# Altium footprint library Load Drives.PcbLib: 5 footprints
Each footprint in its own frame and in the unit in brackets; x right, y up, seen from the top. Pads: shape width x height; smd on the part's side, far side on the other; paste and mask are expansions set on the pad; w line width, h text height; cw(c..) or ccw(c..) is an arc to the next point about the centre after c.
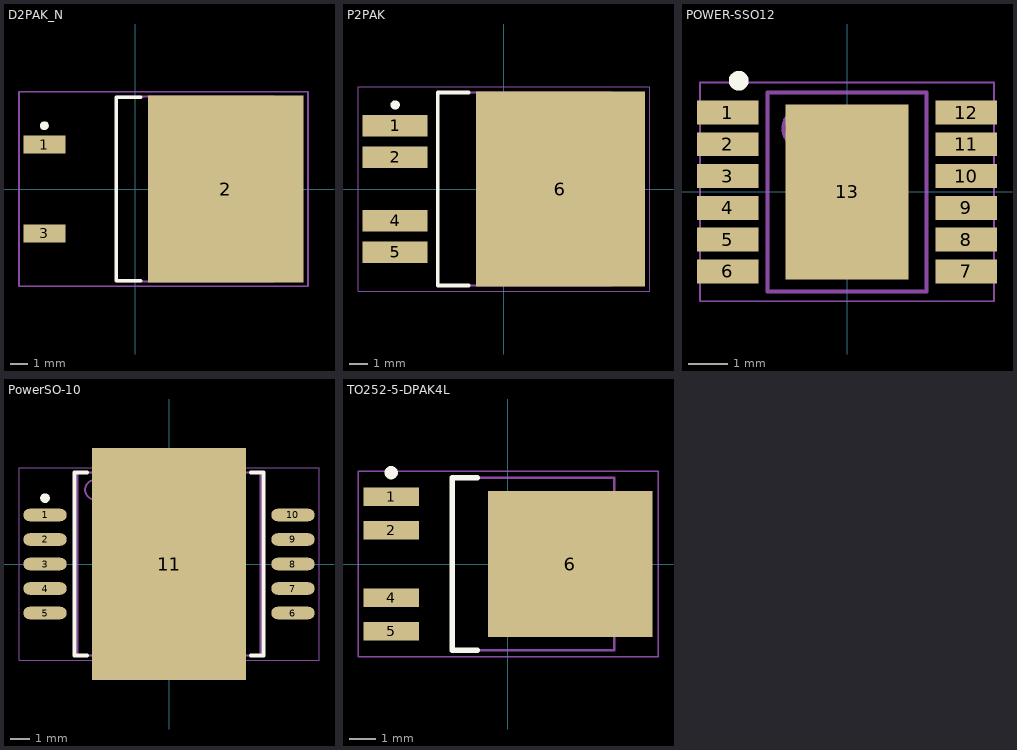
[diagram p0: the footprints below, top view; thin cyan lines are the x and y axes]

## D2PAK_N [mm] "D2-PAK, 4-Leads, Body 8.8x10.4mm, Pitch 2.54mm, Lead Span 15.1mm, IPC Medium Density"
height 4.69
pads (3):
  rect 2.4x1.05 smd: 1(-5.175,2.54) 3(-5.175,-2.54)
  rect 8.9x10.65 smd: 2(5.175,0)
Top Overlay:
  circle w0.25: c-5.175,3.615 r0.125
  lines w0.2: 0.325,-5.25 -1.075,-5.25 -1.075,5.25 0.325,5.25
Mechanical 13:
  lines w0.1: -1.075,-5.275 -1.075,5.275 7.925,5.275 7.925,-5.275 -1.075,-5.275
Mechanical 15:
  lines w0.1: 1.125,0 2.125,0 ; 1.625,-0.5 1.625,0.5 ; -6.625,-5.55 -6.625,5.55 9.875,5.55 9.875,-5.55 -6.625,-5.55
3D body "User Library-DPAK.step": height 4.98, standoff -0.04, extent -6.14,-5.08 9.124,5.08

## P2PAK [mm]
height 4.8
pads (5):
  rect 3.5x1.15 smd: 1(-5.85,3.4) 2(-5.85,1.7) 4(-5.85,-1.7) 5(-5.85,-3.4)
  rect 9.1x10.5 smd: 6(3.05,0)
Top Overlay:
  circle w0.25: c-5.85,4.525 r0.125
  lines w0.2: -1.9,-5.2 -3.55,-5.2 -3.55,5.2 -1.9,5.2
Mechanical 13:
  lines w0.1: -3.55,-5.2 5.8,-5.2 5.8,5.2 -3.55,5.2 -3.55,-5.2
Mechanical 15:
  lines w0.05: -7.85,-5.5 7.85,-5.5 7.85,5.5 -7.85,5.5 -7.85,-5.5
  lines w0.1: -0.5,0 0.5,0 ; 0,-0.5 0,0.5
3D body "P2PAK.step": height 4.9, standoff 0, extent -6.525,-5.2 7.575,5.2

## POWER-SSO12 [mm]
height 1.7
pads (13):
  rect 1.55x0.6 smd: 1(-3,2) 2(-3,1.2) 3(-3,0.4) 4(-3,-0.4) 5(-3,-1.2) 6(-3,-2) 7(3,-2) 8(3,-1.2) 9(3,-0.4) 10(3,0.4) 11(3,1.2) 12(3,2)
  rect 3.1x4.4 smd: 13(0,0)
Top Overlay:
  circle w0.25: c-2.725,2.8 r0.125
Mechanical 13:
  circle w0.1: c-1.1,1.6 r0.5
  lines w0.1: -2,-2.5 -2,2.5 2,2.5 2,-2.5 -2,-2.5
Mechanical 15:
  lines w0.05: -3.7,-2.75 -3.7,2.75 3.7,2.75 3.7,-2.75 -3.7,-2.75
  lines w0.1: -0.5,0 0.5,0 ; 0,-0.5 0,0.5
3D body "POWER-SSO12.step": height 1.7, standoff 0, extent -3,-2.5 3,2.5

## PowerSO-10 [mm] "SOP, 10-Leads, Body 9,45x9,40mm, Pitch 1,27mm, Thermal Pad 0,00x0,00mm, IPC Medium Density"
height 2.65
pads (11):
  oval 2.25x0.65 smd: 1(-6.425,2.54) 2(-6.425,1.27) 3(-6.425,0) 4(-6.425,-1.27) 5(-6.425,-2.54) 6(6.425,-2.54) 7(6.425,-1.27) 8(6.425,0) 9(6.425,1.27) 10(6.425,2.54)
  rect 8x12 smd: 11(0,0)
Top Overlay:
  circle w0.25: c-6.425,3.415 r0.125
  lines w0.2: -4.242,-4.75 -4.9,-4.75 -4.9,4.75 -4.242,4.75 ; 4.242,-4.75 4.9,-4.75 4.9,4.75 ; 4.244,4.75 4.902,4.75
Mechanical 13:
  circle w0.1: c-3.85,3.85 r0.5
  lines w0.1: -4.75,-4.75 -4.75,4.75 4.75,4.75 4.75,-4.75 -4.75,-4.75
Mechanical 15:
  lines w0.05: -7.775,-5 -7.775,5 7.775,5 7.775,-5 -7.775,-5
  lines w0.1: -0.5,0 0.5,0 ; 0,-0.5 0,0.5
3D body "POWERSO10.step": height 3.35, standoff 0, extent -6.95,-4.7 6.95,4.7

## TO252-5-DPAK4L [mm] "D-PAK, 5-Pads, Body 6,15x6,61mm (max), IPC Medium Density"
height 2.3
pads (5):
  rect 2.1x0.7 smd: 1(-4.4,2.54) 2(-4.4,1.27) 4(-4.4,-1.27) 5(-4.4,-2.54)
  rect 6.2x5.5 smd: 6(2.35,0)
Top Overlay:
  circle w0.25: c-4.4,3.44 r0.125
  lines w0.2: -1.15,-3.25 -2.1,-3.25 -2.1,3.25 -1.15,3.25
Mechanical 13:
  lines w0.1: -2.1,-3.25 -2.1,3.25 4,3.25 4,-3.25 -2.1,-3.25
Mechanical 15:
  lines w0.05: -5.65,-3.5 -5.65,3.5 5.65,3.5 5.65,-3.5 -5.65,-3.5
  lines w0.1: -0.5,0 0.5,0 ; 0,-0.5 0,0.5
3D body "DPAK127P972X230-5N.step": height 2.4, standoff 0, extent -4.575,-3.25 5.15,3.25